# Altium footprint library PcbLib1.PcbLib: 3 footprints
Each footprint in its own frame and in the unit in brackets; x right, y up, seen from the top. Pads: shape width x height; smd on the part's side, far side on the other; paste and mask are expansions set on the pad; w line width, h text height; cw(c..) or ccw(c..) is an arc to the next point about the centre after c.
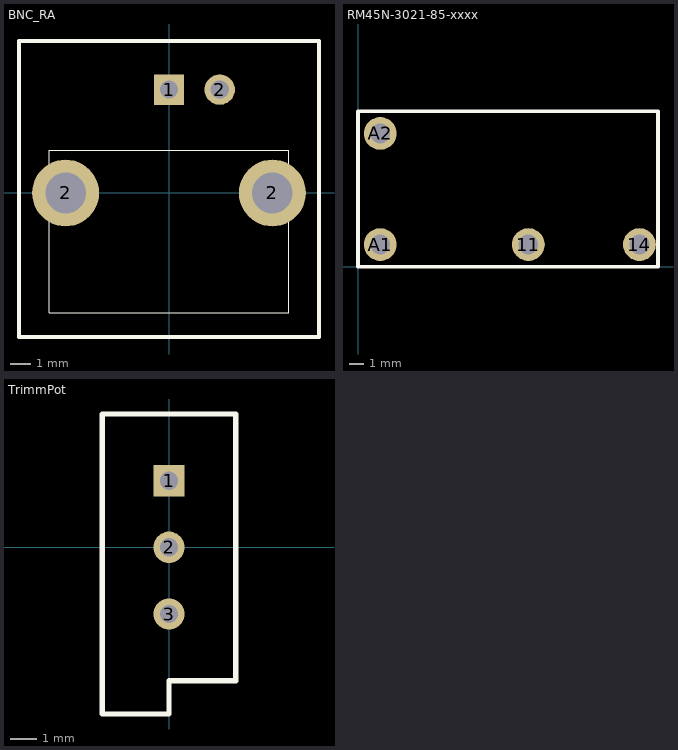
[diagram p0: the footprints below, top view; thin cyan lines are the x and y axes]

## BNC_RA [mm]
height 15
pads (4):
  rect 1.5x1.5 hole 0.9: 1(0,5.1)
  round 3.3 hole 2: 2(-5.1,0) 2(5.1,0)
  round 1.5 hole 0.9: 2(2.5,5.1)
Top Overlay:
  lines w0.025: -7.4,-7.1 -6.25,-7.1 6.25,-7.1 7.4,-7.1 7.4,7.493 -7.4,7.493 -7.4,-7.1 ; -5.9,-5.9 -5.9,2.1 5.9,2.1 5.9,-5.9 -5.9,-5.9
  lines w0.2: -7.4,-7.1 -7.4,7.493 7.4,7.493 7.4,-7.1 6.25,-7.1 -6.25,-7.1 -7.4,-7.1
3D body "73100-0131.STEP": height 13.25, standoff -4.98, extent -7.38,-27.687 7.38,7.493

## RM45N-3021-85-xxxx [mm]
height 15.6
pads (4):
  round 2.25 hole 1.35: 11(11.684,1.524) 14(19.304,1.524) A1(1.524,1.524) A2(1.524,9.144)
Top Overlay:
  lines w0.25: 0,0 20.574,0 20.574,10.668 0,10.668 0,0
3D body "RM45N.STEP": height 16, standoff -3.4, extent 0.164,0.068 20.664,10.668

## TrimmPot [mm]
pads (3):
  rect 1.2x1.2 hole 0.7: 1(0,2.54)
  round 1.2 hole 0.7: 2(0,0) 3(0,-2.54)
Top Overlay:
  lines w0.2: -2.54,-6.35 0,-6.35 0,-5.08 2.54,-5.08 2.54,5.08 -2.54,5.08 -2.54,-6.35
3D body "trimmerpoti.SLDPRT": height 10.53, standoff -5.21, extent -2.57,-4.85 2.21,4.85